# Altium footprint library TVS二极管.PcbLib: 6 footprints
Each footprint in its own frame and in the unit in brackets; x right, y up, seen from the top. Pads: shape width x height; smd on the part's side, far side on the other; paste and mask are expansions set on the pad; w line width, h text height; cw(c..) or ccw(c..) is an arc to the next point about the centre after c.
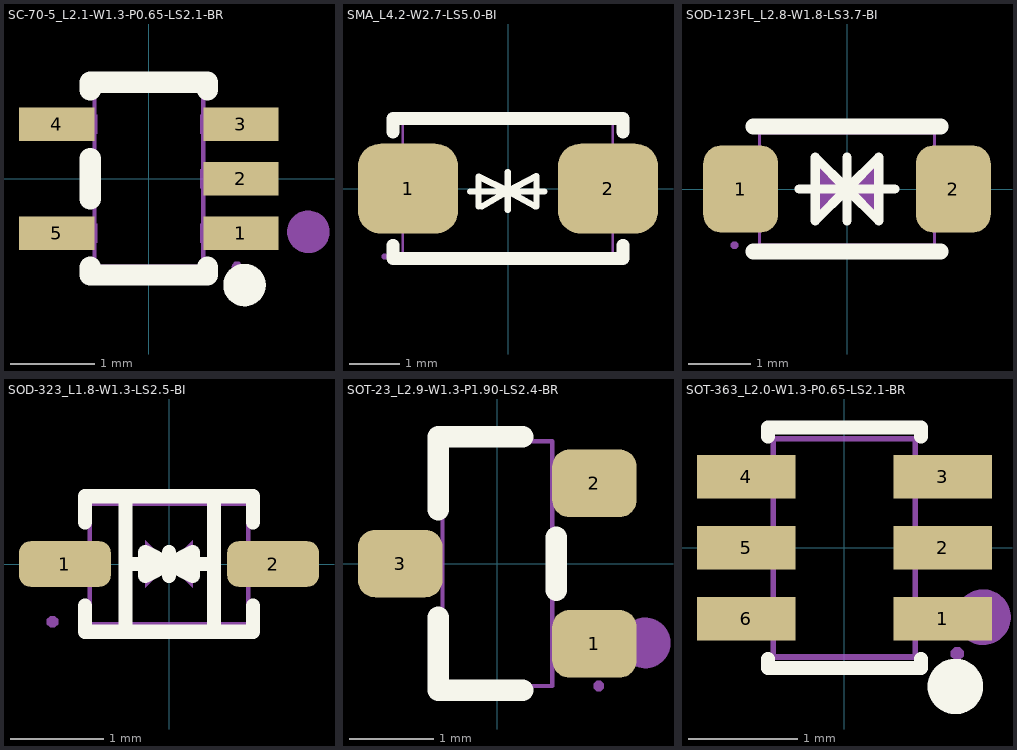
[diagram p0: the footprints below, top view; thin cyan lines are the x and y axes]

## SC-70-5_L2.1-W1.3-P0.65-LS2.1-BR [mm]
pads (5):
  rect 0.9x0.4 smd: 1(1.1,-0.65) 2(1.1,0) 3(1.1,0.65) 4(-1.1,0.65) 5(-1.1,-0.65)
Top Overlay:
  circle w0.254: c1.143,-1.27 r0.127
  lines w0.254: -0.7,-1.058 -0.7,-1.15 0.7,-1.15 0.7,-1.058 ; -0.7,-0.242 -0.7,0.242 ; -0.7,1.058 -0.7,1.15 0.7,1.15 0.7,1.058
Mechanical 6:
  circle w0.254: c1.905,-0.635 r0.127
Mechanical 15:
  region: -1.05,-0.763 -1.05,-0.538 -0.69,-0.538 -0.69,-0.763
  region: -0.7,-0.763 -0.7,-0.538 -0.615,-0.538 -0.615,-0.763
  region: -1.05,0.537 -1.05,0.762 -0.69,0.762 -0.69,0.537
  region: -0.7,0.537 -0.7,0.762 -0.615,0.762 -0.615,0.537
  region: 0.69,0.537 0.69,0.762 1.05,0.762 1.05,0.537
  region: 0.615,0.537 0.615,0.762 0.7,0.762 0.7,0.537
  region: 0.69,-0.113 0.69,0.112 1.05,0.112 1.05,-0.113
  region: 0.615,-0.113 0.615,0.112 0.7,0.112 0.7,-0.113
  region: 0.69,-0.763 0.69,-0.538 1.05,-0.538 1.05,-0.763
  region: 0.615,-0.763 0.615,-0.538 0.7,-0.538 0.7,-0.763
  region: 1.113,-1.052 1.113,-1.028 1.078,-0.993 1.029,-0.993 0.994,-1.028 0.993,-1.052 0.994,-1.077 1.029,-1.111 1.078,-1.111 1.113,-1.077 1.113,-1.052
  lines w0.051: -0.65,-1.05 0.65,-1.05 0.65,1.05 -0.65,1.05 -0.65,-1.05
3D body "D2.step": height 1, standoff 0, extent -1.05,-1 1.05,1

## SMA_L4.2-W2.7-LS5.0-BI [mm]
pads (2):
  rrect50% 2x1.8 smd: 1(-2,0) 2(2,0)
Top Overlay:
  lines w0.127: -0.76,-0.06 0.73,-0.06 ; -0.59,-0.36 -0.59,0.24 -0.002,-0.049 ; -0.53,-0.36 -0.002,-0.049 ; -0.002,-0.43 -0.002,-0.049 ; -0.002,0.332 -0.002,-0.049 ; 0.54,-0.35 -0.002,-0.049 ; 0.57,-0.35 0.57,0.25 -0.002,-0.049
  lines w0.254: -2.3,-1.131 -2.3,-1.4 2.3,-1.4 2.3,-1.131 ; -2.3,1.131 -2.3,1.4 2.3,1.4 2.3,1.131
Mechanical 15:
  region: -2.467,-0.774 -2.467,0.676 -1.327,0.676 -1.327,-0.774
  region: 1.403,-0.725 1.403,0.725 2.543,0.725 2.543,-0.725
  region: -2.407,-1.358 -2.407,-1.334 -2.442,-1.299 -2.491,-1.299 -2.526,-1.334 -2.527,-1.358 -2.526,-1.383 -2.491,-1.417 -2.442,-1.417 -2.407,-1.383
  lines w0.051: -2.105,-1.358 2.095,-1.358 2.095,1.342 -2.105,1.342 -2.105,-1.358
3D body "D2.step": height 2.25, standoff 0, extent -2.52,-1.31 2.52,1.31

## SOD-123FL_L2.8-W1.8-LS3.7-BI [mm]
pads (2):
  rrect50% 1.2x1.4 smd: 1(-1.7,0) 2(1.7,0)
Top Overlay:
  lines w0.15: -0.762,0 0.762,0 ; 0,-0.508 0,0.508 ; 0,-0.254 0,0.254 ; 0,0 -0.508,0.508 -0.508,-0.508 0,0 ; 0,0 0.508,-0.508 0.508,0.508 0,0
  lines w0.254: -1.5,-1 1.5,-1 ; -1.5,1 1.5,1
Mechanical 6:
  region: 0.5,-0.5 0.5,0.5 0,0
  region: -0.5,0.5 -0.5,-0.5 0,0
Mechanical 15:
  region: -1.74,-0.9 -1.741,-0.875 -1.776,-0.841 -1.825,-0.841 -1.86,-0.875 -1.86,-0.9 -1.86,-0.924 -1.825,-0.959 -1.776,-0.959 -1.741,-0.924
  region: 1.275,0.5 1.8,0.5 1.8,-0.5 1.275,-0.5
  region: -1.8,0.5 -1.275,0.5 -1.275,-0.5 -1.8,-0.5
  lines w0.051: -1.4,-0.9 -1.4,0.9 1.4,0.9 1.4,-0.9 -1.4,-0.9
3D body "D3.step": height 1.18, standoff 0.04, extent -1.85,-0.9 1.85,0.9

## SOD-323_L1.8-W1.3-LS2.5-BI [mm]
pads (2):
  rrect50% 0.985x0.49 smd: 1(-1.118,0) 2(1.118,0)
Top Overlay:
  lines w0.152: -0.901,-0.448 -0.901,-0.726 0.901,-0.726 0.901,-0.448 ; -0.901,0.448 -0.901,0.726 0.901,0.726 0.901,0.448 ; -0.467,-0.726 -0.467,0.726 ; 0.483,-0.726 0.483,0.726
  lines w0.154: -0.467,0 0.483,0.003 ; -0.127,0 0.003,0 0.254,0.127 0.254,-0.127 0.002,-0.003 ; -0.002,0.003 -0.254,0.127 -0.254,-0.127 -0.003,0 0.127,0 ; 0,-0.127 0,0.127
Mechanical 6:
  region: -0.254,0.254 -0.254,-0.254 0,0
  region: 0.254,-0.254 0.254,0.254 0,0
Mechanical 15:
  region: -1.19,-0.62 -1.19,-0.595 -1.225,-0.56 -1.275,-0.56 -1.31,-0.595 -1.31,-0.62 -1.31,-0.645 -1.275,-0.68 -1.225,-0.68 -1.19,-0.645
  region: 0.84,-0.163 0.84,0.163 0.96,0.163 0.96,-0.163
  region: 0.95,-0.163 0.95,0.163 1.25,0.163 1.25,-0.163
  region: -0.96,-0.163 -0.96,0.163 -0.84,0.163 -0.84,-0.163
  region: -1.25,-0.163 -1.25,0.163 -0.95,0.163 -0.95,-0.163
  lines w0.051: -0.85,-0.65 -0.85,0.65 0.85,0.65 0.85,-0.65 -0.85,-0.65
3D body "D1.step": height 1.2, standoff 0, extent -1.256,-0.65 1.256,0.65

## SOT-23_L2.9-W1.3-P1.90-LS2.4-BR [mm]
pads (3):
  rrect50% 1x0.8 smd: 1(1.15,-0.95) 2(1.15,0.95) 3(-1.15,0)
Top Overlay:
  lines w0.254: -0.7,-0.636 -0.7,-1.5 0.3,-1.5 ; -0.7,0.636 -0.7,1.5 0.3,1.5 ; 0.7,-0.314 0.7,0.314
Mechanical 6:
  circle w0.3: c1.753,-0.94 r0.15
Mechanical 15:
  region: 1.26,-1.45 1.26,-1.425 1.225,-1.39 1.175,-1.39 1.14,-1.425 1.14,-1.45 1.14,-1.475 1.175,-1.51 1.225,-1.51 1.26,-1.475
  region: 0.64,-1.15 0.64,-0.75 0.81,-0.75 0.81,-1.15
  region: 0.8,-1.15 0.8,-0.75 1.2,-0.75 1.2,-1.15
  region: 0.64,0.75 0.64,1.15 0.81,1.15 0.81,0.75
  region: 0.8,0.75 0.8,1.15 1.2,1.15 1.2,0.75
  region: -0.81,-0.2 -0.81,0.2 -0.64,0.2 -0.64,-0.2
  region: -1.2,-0.2 -1.2,0.2 -0.8,0.2 -0.8,-0.2
  lines w0.051: -0.65,-1.45 -0.65,1.45 0.65,1.45 0.65,-1.45 -0.65,-1.45
3D body "SOT23-3.STEP": height 1.05, standoff 0, extent -1.13,-1.5 1.27,1.5

## SOT-363_L2.0-W1.3-P0.65-LS2.1-BR [mm]
pads (6):
  rect 0.9x0.4 smd: 1(0.9,-0.65) 2(0.9,0) 3(0.9,0.65) 4(-0.9,0.65) 5(-0.9,0) 6(-0.9,-0.65)
Top Overlay:
  circle w0.254: c1.016,-1.27 r0.127
  lines w0.127: -0.7,-1.018 -0.7,-1.1 0.7,-1.1 0.7,-1.018 ; -0.7,1.018 -0.7,1.1 0.7,1.1 0.7,1.018
Mechanical 6:
  circle w0.254: c1.27,-0.635 r0.127
Mechanical 15:
  region: -0.644,0.526 -0.764,0.526 -0.764,0.775 -0.644,0.775
  region: -0.762,0.525 -1.062,0.525 -1.062,0.775 -0.762,0.775
  region: -0.644,-0.124 -0.764,-0.124 -0.764,0.125 -0.644,0.125
  region: -0.762,-0.125 -1.062,-0.125 -1.062,0.125 -0.762,0.125
  region: -0.644,-0.774 -0.764,-0.774 -0.764,-0.525 -0.644,-0.525
  region: -0.762,-0.775 -1.062,-0.775 -1.062,-0.525 -0.762,-0.525
  region: 0.644,-0.525 0.764,-0.526 0.764,-0.775 0.644,-0.775
  region: 0.762,-0.525 1.062,-0.525 1.062,-0.775 0.762,-0.775
  region: 0.644,0.125 0.764,0.124 0.764,-0.125 0.644,-0.125
  region: 0.762,0.125 1.062,0.125 1.062,-0.125 0.762,-0.125
  region: 0.644,0.774 0.764,0.774 0.764,0.525 0.644,0.525
  region: 0.762,0.775 1.062,0.775 1.062,0.525 0.762,0.525
  region: 1.092,-0.97 1.091,-0.946 1.056,-0.913 1.008,-0.913 0.973,-0.946 0.972,-0.97 0.973,-0.994 1.008,-1.027 1.056,-1.027 1.091,-0.994 1.092,-0.97
  lines w0.051: -0.65,-1 0.65,-1 0.65,1 -0.65,1 -0.65,-1
3D body "D1.step": height 1.25, standoff 0, extent -1.056,-1 1.056,1